# EAGLE library part REG103-XX (library DAC)
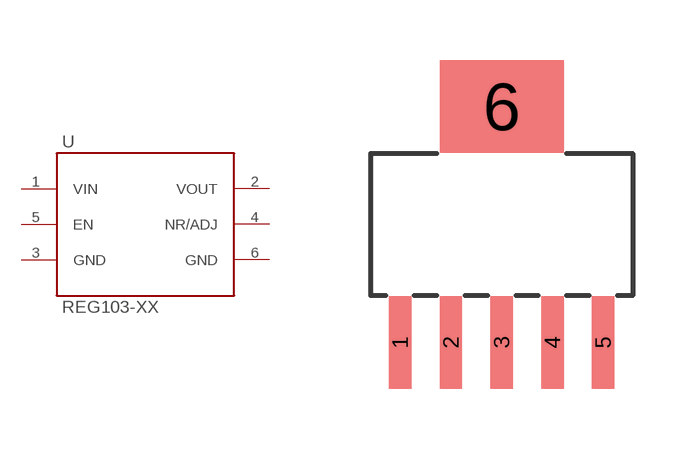
[diagram p42: symbol with the pads of TI-DCQ; footprint TI-DCQ]

Designator prefix U

## REG103-XXDCQ  [TI-DCQ]
1  VIN  sup
2  VOUT  sup
3  GND  sup
4  NR/ADJ  sup
5  EN  sup
6  GND  sup

## Footprint TI-DCQ (pad centres in mm)
smd 0.56 x 2.32: 1 -2.54,-2.95; 2 -1.27,-2.95; 3 0,-2.95; 4 1.27,-2.95; 5 2.54,-2.95
smd 3.1 x 2.32: 6 0,2.95